# Altium schematic symbol library XBee_LTE.SchLib: 1 symbol
Pins are listed as number, name and electrical type; pins without a type are passive.

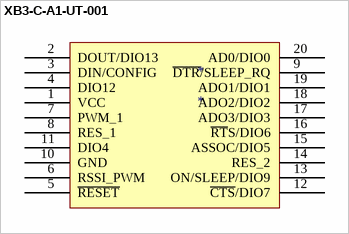
[diagram p0: symbol XB3-C-A1-UT-001]

## XB3-C-A1-UT-001
designator *
MF: Digi; MP: XB3-C-A1-UT-001; Digikey link: https://www.digikey.com/product-detail/en/digi/XB3-C-A1-UT-001/602-2211-ND/8109033; Digikey part number: 602-2211-ND; Package: 20-SMD Module; Price: 99; Datasheet link: https://www.digi.com/pdf/ds_xbee3-cellular-cat1.pdf
footprint XB24CAPIT-001
pins: 1 VCC, 2 DOUT/DIO13, 3 DIN/CONFIG, 4 DIO12, 5 ~{RESET}, 6 RSSI_PWM, 7 PWM_1, 8 RES_1, 9 ~{DTR}/SLEEP_RQ, 10 GND, 11 DIO4, 12 ~{CTS}/DIO7, 13 ON/SLEEP/DIO9, 14 RES_2, 15 ASSOC/DIO5, 16 ~{RT}S/DIO6, 17 ADO3/DIO3, 18 ADO2/DIO2, 19 ADO1/DIO1, 20 AD0/DIO0